# EAGLE library part RPI-GPIO_CONNECTOR (library MrSwirlyEyes)
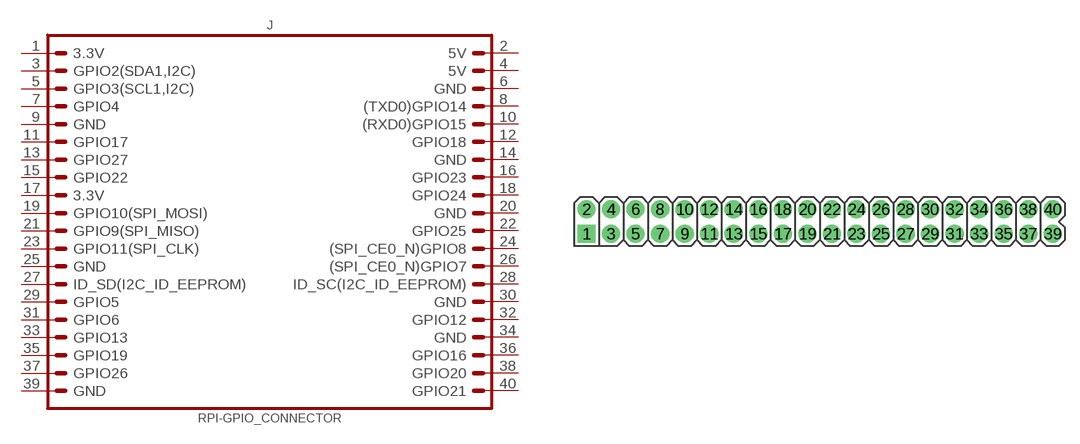
[diagram p14: symbol with the pads of CONNECTOR_RPI-GPIO; footprint CONNECTOR_RPI-GPIO]

Designator prefix J

## RPI-GPIO_CONNECTOR (CREATOR: MrSwirlyEyes; DATASHEET: https://media.digikey.com/pdf/Data%20Sheets/Sparkfun%20PDFs/PRT-14017_Web.pdf; DIST: Digikey; DISTLINK: https://www.digikey.com/products/en?keywords=1568-1462-ND; DISTPN: 1568-1462-ND; MFR: Sparkfun Electronics; MPN: PRT-14017; TESTED: NO; VALUE: RPI-GPIO)  [CONNECTOR_RPI-GPIO]
1  3.3V
2  5V
3  GPIO2(SDA1,I2C)
4  5V
5  GPIO3(SCL1,I2C)
6  GND
7  GPIO4
8  (TXD0)GPIO14
9  GND
10  (RXD0)GPIO15
11  GPIO17
12  GPIO18
13  GPIO27
14  GND
15  GPIO22
16  GPIO23
17  3.3V
18  GPIO24
19  GPIO10(SPI_MOSI)
20  GND
21  GPIO9(SPI_MISO)
22  GPIO25
23  GPIO11(SPI_CLK)
24  (SPI_CE0_N)GPIO8
25  GND
26  (SPI_CE0_N)GPIO7
27  ID_SD(I2C_ID_EEPROM)
28  ID_SC(I2C_ID_EEPROM)
29  GPIO5
30  GND
31  GPIO6
32  GPIO12
33  GPIO13
34  GND
35  GPIO19
36  GPIO16
37  GPIO26
38  GPIO20
39  GND
40  GPIO21

## Footprint CONNECTOR_RPI-GPIO (pad centres in mm)
drill 1.016 pad 1.88 square: 1 -24.13,-1.27
drill 1.016 pad 1.88: 2 -24.13,1.27; 3 -21.59,-1.27; 4 -21.59,1.27; 5 -19.05,-1.27; 6 -19.05,1.27; 7 -16.51,-1.27; 8 -16.51,1.27; 9 -13.97,-1.27; 10 -13.97,1.27; 11 -11.43,-1.27; 12 -11.43,1.27; 13 -8.89,-1.27; 14 -8.89,1.27; 15 -6.35,-1.27; 16 -6.35,1.27; 17 -3.81,-1.27; 18 -3.81,1.27; 19 -1.27,-1.27; 20 -1.27,1.27; 21 1.27,-1.27; 22 1.27,1.27; 23 3.81,-1.27; 24 3.81,1.27; 25 6.35,-1.27; 26 6.35,1.27; 27 8.89,-1.27; 28 8.89,1.27; 29 11.43,-1.27; 30 11.43,1.27; 31 13.97,-1.27; 32 13.97,1.27; 33 16.51,-1.27; 34 16.51,1.27; 35 19.05,-1.27; 36 19.05,1.27; 37 21.59,-1.27; 38 21.59,1.27; 39 24.13,-1.27; 40 24.13,1.27